# Altium footprint library PCB - CONNECTOR - MILL-MAX 816-22-003-10-001101.PCBLIB: 1 footprints
Each footprint in its own frame and in the unit in brackets; x right, y up, seen from the top. Pads: shape width x height; smd on the part's side, far side on the other; paste and mask are expansions set on the pad; w line width, h text height; cw(c..) or ccw(c..) is an arc to the next point about the centre after c.
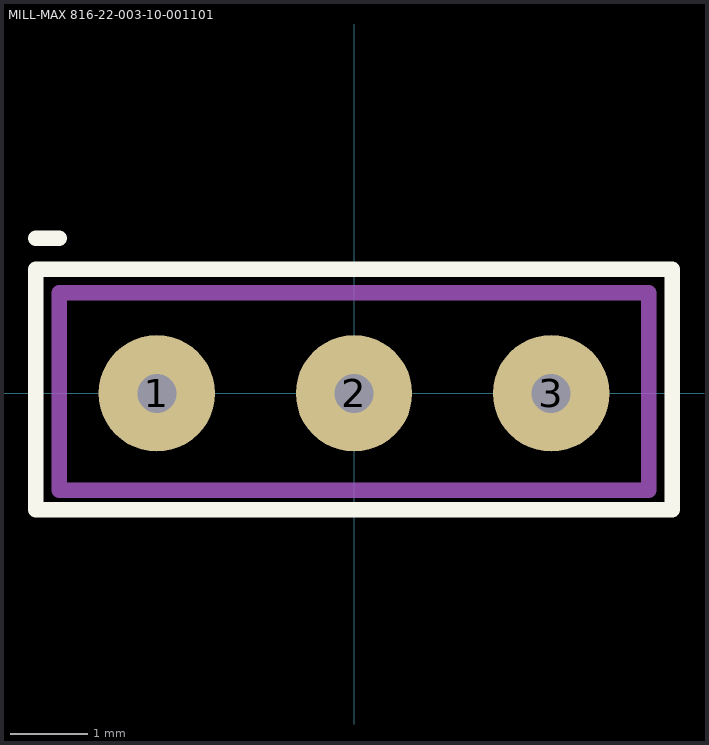
[diagram p0: the footprint, top view; thin cyan lines are the x and y axes]

## MILL-MAX 816-22-003-10-001101 [mm] "FCI Pluggable Terminal Block"
height 7
pads (3):
  round 1.5 hole 0.5: 1(-2.54,0) 2(0,0) 3(2.54,0)
Top Overlay:
  lines w0.2: -4.1,2 -3.8,2 ; -4.1,-1.5 -4.1,1.6 4.1,1.6 4.1,-1.5 -4.1,-1.5
Mechanical 15:
  lines w0.2: -0.635,0 0.635,0 ; 0,-0.635 0,0.635 ; -3.8,-1.25 -3.8,1.3 3.8,1.3 3.8,-1.25 -3.8,-1.25
3D body "MILL MAX 816-22-003-10-001101.step": height 6.98, standoff -1.75, extent -3.806,-1.25 3.814,1.29